# EAGLE library part IC-MCP73830T (library wolff-den)
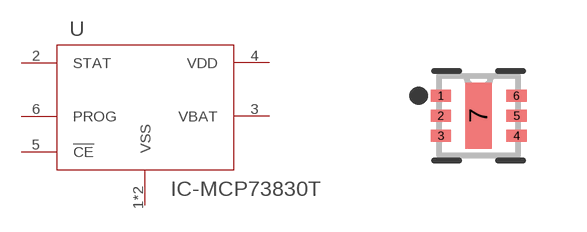
[diagram p10: symbol with the pads of DFN6_2X2MY_MCH; footprint DFN6_2X2MY_MCH]

Designator prefix U

## IC-MCP73830T (MF: Microchip; MPN: MCP73830T-2AAI/MYY)  [DFN6_2X2MY_MCH]
1  VSS  pwr
2  STAT  out
3  VBAT
4  VDD  pwr
5  !CE  in
6  PROG
7  VSS  pwr

## Footprint DFN6_2X2MY_MCH (pad centres in mm)
smd 0.505 x 0.306: 1 -0.948,0.5; 2 -0.948,0; 3 -0.948,-0.5; 4 0.948,-0.5; 5 0.948,0; 6 0.948,0.5
smd 0.66 x 1.651: 7 0,0